# Altium footprint library WF-4R.PcbLib: 1 footprints
Each footprint in its own frame and in the unit in brackets; x right, y up, seen from the top. Pads: shape width x height; smd on the part's side, far side on the other; paste and mask are expansions set on the pad; w line width, h text height; cw(c..) or ccw(c..) is an arc to the next point about the centre after c.
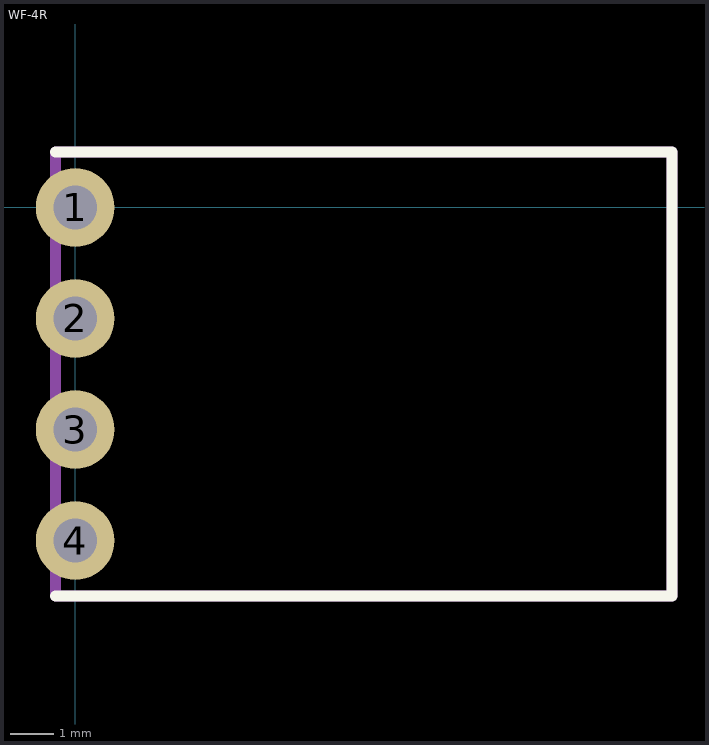
[diagram p0: the footprint, top view; thin cyan lines are the x and y axes]

## WF-4R [mm]
pads (4):
  round 1.8 hole 1: 1(0,0) 2(0,-2.54) 3(0,-5.08) 4(0,-7.62)
Top Overlay:
  lines w0.254: -0.446,-8.89 13.654,-8.89 13.654,1.27 -0.446,1.27
TopAssy:
  lines w0.254: -0.446,-8.89 -0.446,1.27 13.654,1.27 13.654,-8.89 -0.446,-8.89
3D body "User Library-DS1070-4MR (WF-4RA CONNFLY).step": height 5.9, standoff -3.4, extent -0.446,-8.89 13.654,1.27